# Altium footprint library baseLibPcb.PcbLib: 40 footprints (part 3 of 3)
Each footprint in its own frame and in the unit in brackets; x right, y up, seen from the top. Pads: shape width x height; smd on the part's side, far side on the other; paste and mask are expansions set on the pad; w line width, h text height; cw(c..) or ccw(c..) is an arc to the next point about the centre after c.
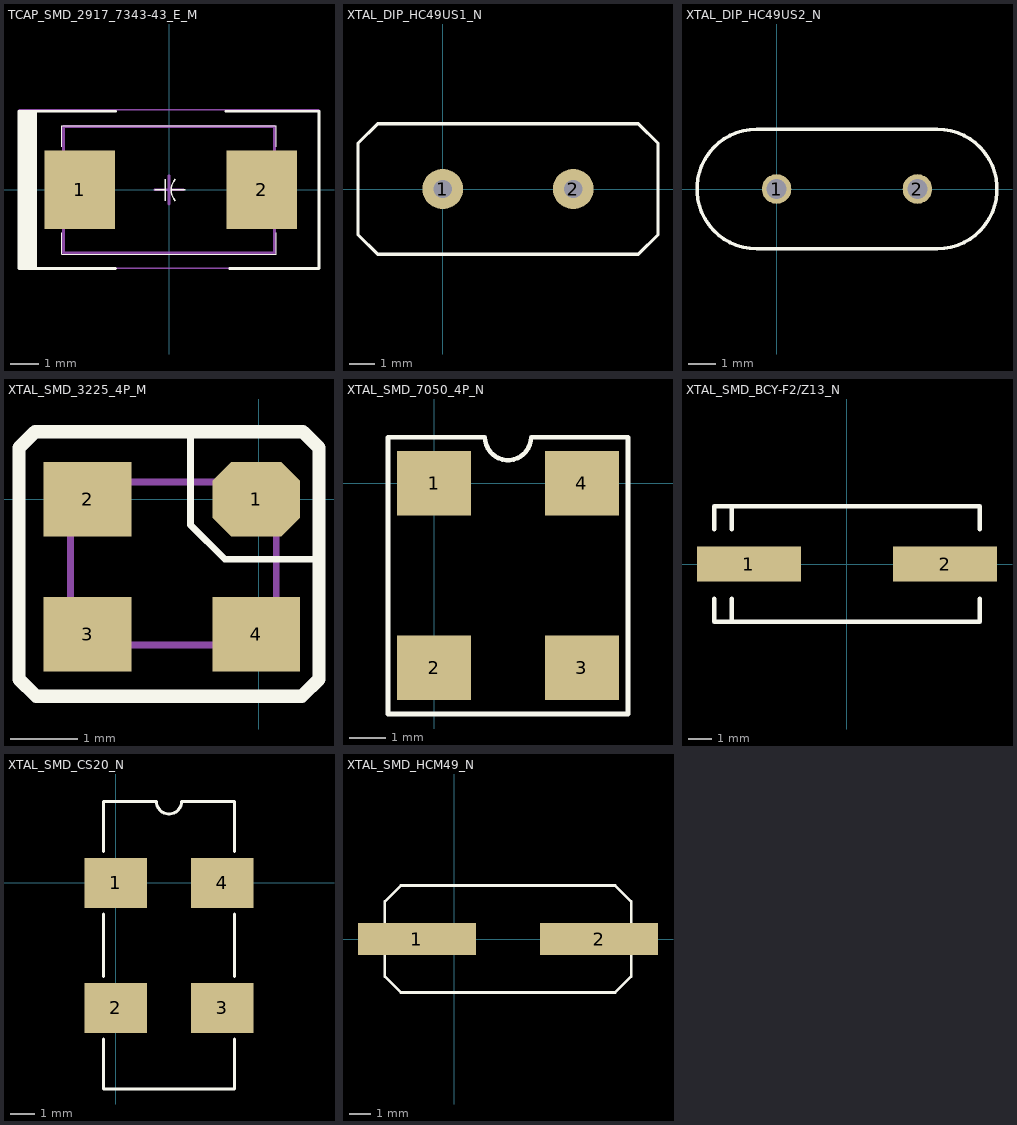
[diagram p2: the footprints below, top view; thin cyan lines are the x and y axes]

## TCAP_SMD_2917_7343-43_E_M [mm] "tantalum , 2-Leads, Body 7.30x4.35mm, IPC Low Density"
height 4.3
pads (2):
  rect 2.5x2.8 smd: 1(-3.175,0) 2(3.302,0)
Top Overlay:
  rectangle: -5.334,-2.794 -4.699,2.794
  lines w0.02: -3.81,-1.524 -3.81,-2.286 3.81,-2.286 3.81,-1.524 ; -3.81,1.524 -3.81,2.286 3.81,2.286 3.81,1.524
  lines w0.05: -0.508,0 -0.127,0 ; -0.127,-0.381 -0.127,0.381 ; 0.102,0 0.584,0 ; 0.229,-0.381 cw(c0.603,-0.006) 0.229,0.369
  lines w0.1: -1.905,-2.794 -5.334,-2.794 -5.334,2.794 -1.905,2.794 ; 2.032,2.794 5.334,2.794 5.334,-2.794 2.159,-2.794
Mechanical 13:
  lines w0.1: -3.75,-2.25 -3.75,2.25 3.75,2.25 3.75,-2.25 -3.75,-2.25
Mechanical 15:
  lines w0.05: -5.334,-2.794 -5.334,2.85 5.334,2.85 5.334,-2.794 -5.334,-2.794
  lines w0.1: -0.5,0 0.5,0 ; 0,-0.5 0,0.5
3D body: height 4.3, standoff 0, extent -2.25,-2.25 2.25,2.25
3D body: height 4.3, standoff 0, extent -3.75,-2.25 -2.25,2.25
3D body: height 4.3, standoff 0, extent 2.25,-2.25 3.75,2.25

## XTAL_DIP_HC49US1_N [mil]
pads (2):
  round 62 hole 28: 1(0,0) 2(200,0)
Top Overlay:
  lines w5: -130,-70 -130,70 -100,100 300,100 330,70 330,-70 300,-100 -100,-100 -130,-70

## XTAL_DIP_HC49US2_N [mil]
pads (2):
  round 42 / inner round 68 / far side round 68 hole 28: 1(0,0) 2(200,0)
Top Overlay:
  lines w5: -28,-85.01 cw(c-28,0) -28,85.01 228,85.01 cw(c228,0) 228,-85.01 -28,-85.01

## XTAL_SMD_3225_4P_M [mm] "XTAL-4Pin"
pads (4):
  oct 1.3x1.1 smd: 1(-0.04,0)
  rect 1.3x1.1 smd: 2(-2.54,0) 3(-2.54,-2) 4(-0.04,-2)
Top Overlay:
  lines w0.1: -1.016,1 -1.016,-0.381 -0.508,-0.889 0.889,-0.889
  lines w0.2: -1.79,1 0.651,1 0.889,0.762 0.889,-2.667 0.635,-2.921 -3.302,-2.921 -3.556,-2.667 -3.556,0.762 -3.318,1 -0.79,1
Mechanical 13:
  lines w0.1: -2.794,-2.159 -2.794,0.254 0.254,0.254 0.254,-2.159 -2.794,-2.159
3D body: height 0.56, standoff 0, extent -2.794,-2.112 0.254,0.254

## XTAL_SMD_7050_4P_N [mil]
pads (4):
  rect 80x70 smd: 1(0,0) 2(0,-200) 3(160,-200) 4(160,0)
Top Overlay:
  lines w5: -50,-250 -50,50 55,50 ccw(c80,50) 105,50 210,50 210,-250 -50,-250

## XTAL_SMD_BCY-F2/Z13_N [mm] "Quartz Crystal, SM; 2 Leads; Body 11.4 x 4.8 x 5 mm (LxWxH)"
height 5
pads (2):
  rect 4.5x1.5 smd: 1(-4.25,0) 2(4.25,0)
Top Overlay:
  lines w0.2: -5.75,-1.5 -5.75,-2.5 5.75,-2.5 5.75,-1.5 ; -5.75,1.5 -5.75,2.5 5.75,2.5 5.75,1.5 ; -5,-2.5 -5,-1.5 ; -5,1.5 -5,2.5

## XTAL_SMD_CS20_N [mil]
pads (4):
  rect 100x80 smd: 1(0,0) 2(0,-200) 3(170,-200) 4(170,0)
Top Overlay:
  lines w5: -20,-250 -20,-330 190,-330 190,-250 ; -20,-150 -20,-50 ; -20,50 -20,130 65,130 ccw(c85,130) 105,130 190,130 190,50 ; 190,-150 190,-50

## XTAL_SMD_HCM49_N [mil]
pads (2):
  rect 220x60 smd: 1(-70,0) 2(270,0)
Top Overlay:
  lines w5: -130,-70 -100,-100 300,-100 330,-70 330,70 300,100 -100,100 -130,70 -130,-70
3D body: height 0, standoff 0, extent -184,-102.5 384,102.5
3D body: height 0, standoff 0, extent -130.02,-70.02 -130.01,-70.01